# EAGLE library part TX_7.5+7.5_1.5VA_ENCAPSULATED (library EW_00_Ken)
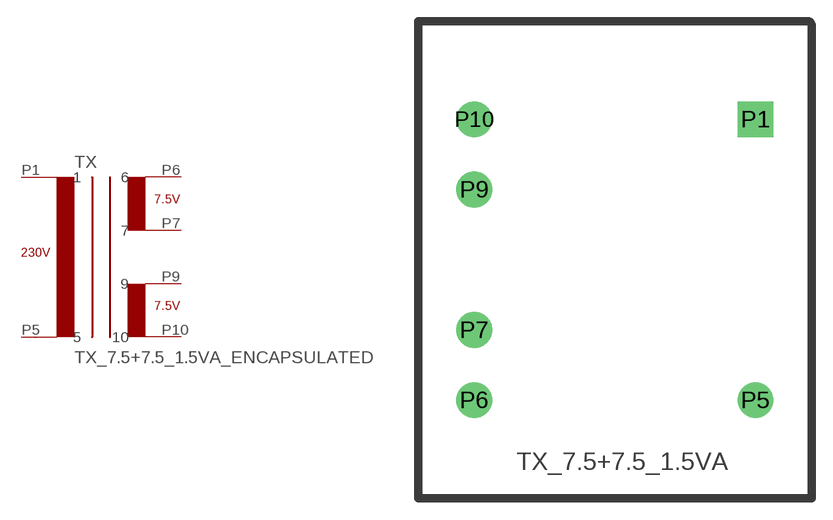
[diagram p11: symbol with the pads of TX_7.5+7.5_1.5VA_ENCAPSULATED; footprint TX_7.5+7.5_1.5VA_ENCAPSULATED]

Designator prefix TX

## TX_7.5+7.5_1.5VA_ENCAPSULATED  [TX_7.5+7.5_1.5VA_ENCAPSULATED]
P1  1
P5  5
P6  6
P7  7
P9  9
P10  10

## Footprint TX_7.5+7.5_1.5VA_ENCAPSULATED (pad centres in mm)
drill 0.5 pad 2.54 square: P1 10,10
drill 0.5 pad 2.54: P5 10,-10; P6 -10,-10; P7 -10,-5; P9 -10,5; P10 -10,10